# EAGLE library part HEADER-6P (library Deegou_Connector)
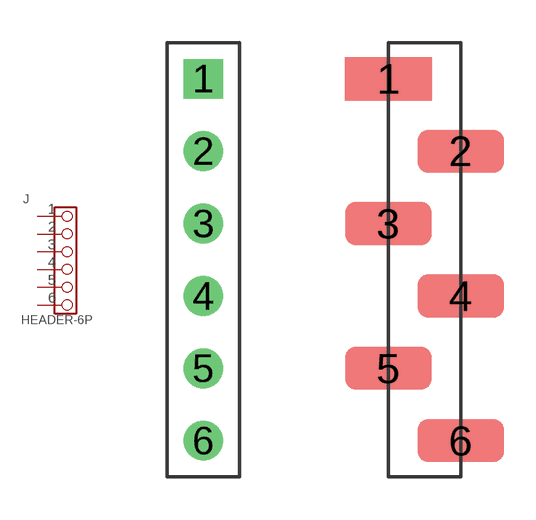
[diagram p15: symbol with the pads of 6P-2.54-55/35MIL; footprints 6P-2.54-55/35MIL, 6P-2.54-SMD]

Designator prefix J

## HEADER-6P-55/35MIL  [6P-2.54-55/35MIL]
1  1
2  2
3  3
4  4
5  5
6  6

## HEADER-6P-SMD  [6P-2.54-SMD]
Pads as for 6P-2.54-55/35MIL

## HEADER-6P-80/40MIL  [6P-2.54-80/40MIL]
Pads as for 6P-2.54-55/35MIL

## HEADER-6P-60/35MIL  [6P-2.54-60/35MIL]
Pads as for 6P-2.54-55/35MIL

## HEADER-6P-65/35MIL  [6P-2.54-65/35MIL]
Pads as for 6P-2.54-55/35MIL

## HEADER-6P-5.0  [6P-THT-5.0]
Pads as for 6P-2.54-55/35MIL

## HEADER-6P-2.0PHAW  [PH2.0AW-6]
Pads as for 6P-2.54-55/35MIL

## HEADER-6P-1.0  [6P-1.0]
Pads as for 6P-2.54-55/35MIL

## HEADER-6P-1.25  [6P-SMD-1.25]
Pads as for 6P-2.54-55/35MIL

## HEADER-6P5.08  [6P-SCREW-5.08]
Pads as for 6P-2.54-55/35MIL

## HEADER-6P-2.0  [6P-2.0]
Pads as for 6P-2.54-55/35MIL

## HEADER-6P1.27  [1X6P-1.27]
P$1  1
P$2  2
P$3  3
P$4  4
P$5  5
P$6  6

## HEADER-6P  [FPC-6P]
Pads as for 6P-2.54-55/35MIL

## Footprint 6P-2.54-55/35MIL (pad centres in mm)
drill 0.889 pad 1.397 square: 1 0,6.35
drill 0.889 pad 1.397: 2 0,3.81; 3 0,1.27; 4 0,-1.27; 5 0,-3.81; 6 0,-6.35

## Footprint 6P-2.54-SMD (pad centres in mm)
smd 3.048 x 1.524: 1 -1.27,6.35; 2 1.27,3.81; 3 -1.27,1.27; 4 1.27,-1.27; 5 -1.27,-3.81; 6 1.27,-6.35

## Footprint 6P-2.54-80/40MIL (pad centres in mm)
drill 1.016 pad 2.032 square: 1 0,6.35
drill 1.016 pad 2.032: 2 0,3.81; 3 0,1.27; 4 0,-1.27; 5 0,-3.81; 6 0,-6.35

## Footprint 6P-2.54-60/35MIL (pad centres in mm)
drill 0.889 pad 1.524 square: 1 0,6.35
drill 0.889 pad 1.524: 2 0,3.81; 3 0,1.27; 4 0,-1.27; 5 0,-3.81; 6 0,-6.35

## Footprint 6P-2.54-65/35MIL (pad centres in mm)
drill 0.889 pad 1.651 square: 1 0,6.35
drill 0.889 pad 1.651: 2 0,3.81; 3 0,1.27; 4 0,-1.27; 5 0,-3.81; 6 0,-6.35

## Footprint 6P-THT-5.0 (pad centres in mm)
drill 1: 1 0,0; 2 5,0; 3 10,0; 4 15,0; 5 20,0; 6 25,0

## Footprint PH2.0AW-6 (pad centres in mm)
smd 1 x 3.5: 1 0,0; 2 2,0; 3 4,0; 4 6,0; 5 8,0; 6 10,0
smd 1.5 x 3.5: 7 -2.35,-5.6; 8 12.35,-5.6

## Footprint 6P-1.0 (pad centres in mm)
smd 0.635 x 1.27: 1 0,0; 2 1,0; 3 2,0; 4 3,0; 5 4,0; 6 5,0
smd 1 x 0.8: P$7 -1.5,-4.5; P$8 6.5,-4.5

## Footprint 6P-SMD-1.25 (pad centres in mm)
smd 0.8 x 1.6: 1 0,0; 2 1.25,0; 3 2.5,0; 4 3.75,0; 5 5,0; 6 6.25,0
smd 2.1 x 3: P$5 -2.55,-3; P$6 8.8,-3

## Footprint 6P-SCREW-5.08 (pad centres in mm)
drill 1.4 pad 2.54: 1 -12.7,0; 2 -7.62,0; 3 -2.54,0; 4 2.54,0; 5 7.62,0; 6 12.7,0

## Footprint 6P-2.0 (pad centres in mm)
drill 0.762 pad 1.27 square: 1 0,4
drill 0.762 pad 1.27: 2 0,2; 3 0,0; 4 0,-2; 5 0,-4; 6 0,-6

## Footprint 1X6P-1.27 (pad centres in mm)
drill 0.55: P$1 -3.175,0; P$2 -1.905,0; P$3 -0.635,0; P$4 0.635,0; P$5 1.905,0; P$6 3.175,0

## Footprint FPC-6P (pad centres in mm)
smd 0.305 x 1.524: 1 1.524,3.602; 2 1.016,3.602; 3 0.508,3.602; 4 0,3.602; 5 -0.508,3.602; 6 -1.016,3.602
smd 1.524 x 1.778: P$1 -3.286,1.989; P$2 3.986,1.989